# Altium footprint library resistors.PcbLib: 6 footprints
Each footprint in its own frame and in the unit in brackets; x right, y up, seen from the top. Pads: shape width x height; smd on the part's side, far side on the other; paste and mask are expansions set on the pad; w line width, h text height; cw(c..) or ccw(c..) is an arc to the next point about the centre after c.
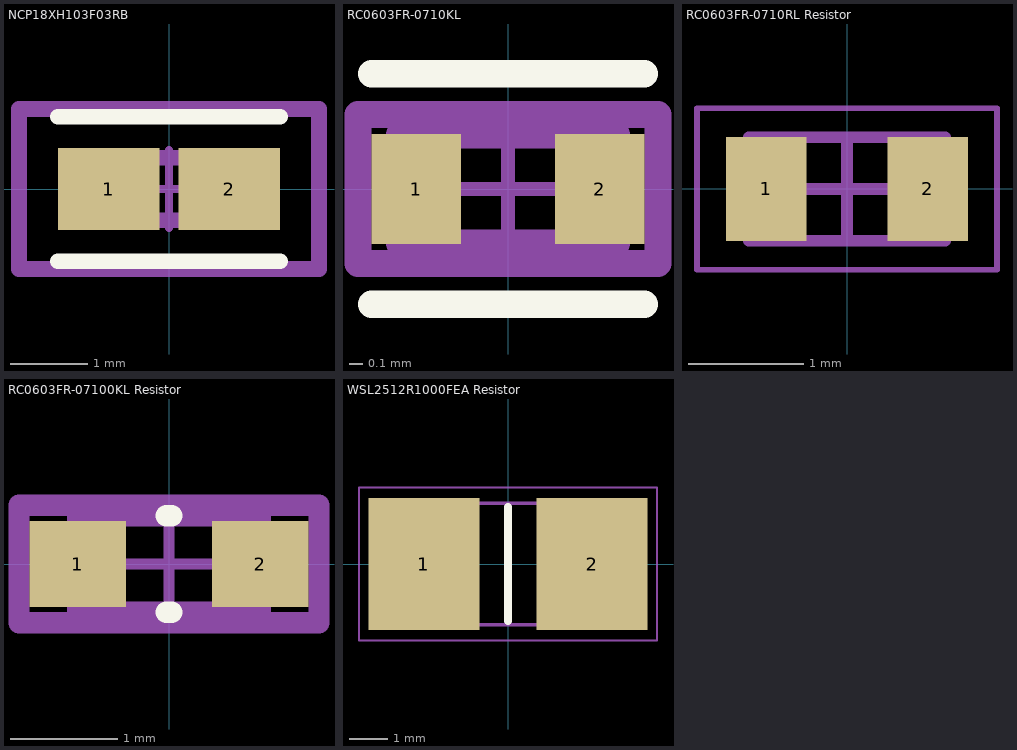
[diagram p0: the footprints below, top view; thin cyan lines are the x and y axes]

## NCP18XH103F03RB [mm]
pads (2):
  rect 1.306x1.058 smd paste+0 mask+0: 1(-0.776,0) 2(0.776,0)
Top Overlay:
  lines w0.2: -1.429,-0.929 1.429,-0.929 ; -1.429,0.929 1.429,0.929
Top 3D Body:
  lines w0.2: -0.8,-0.4 -0.8,0.4 0.8,0.4 0.8,-0.4 -0.8,-0.4
Top Courtyard:
  lines w0.2: -1.929,-1.029 -1.929,1.029 1.929,1.029 1.929,-1.029 -1.929,-1.029
Top Assembly:
  lines w0.2: -1.929,-1.029 -1.929,1.029 1.929,1.029 1.929,-1.029 -1.929,-1.029
  text ".Designator" at 0,0.188 h1
Top Component Center:
  lines w0.1: -0.5,0 0.5,0 ; 0,-0.5 0,0.5
3D body "Res_Murata_NCP18WB473D03RB_eec.STEP": height 0.25, standoff 0, extent -1.929,-1.029 1.929,1.029

## PCBComponent_1 [mm]

## RC0603FR-0710KL [mm]
pads (2):
  rect 0.659x0.812 smd paste+0 mask+0: 1(-0.677,0) 2(0.677,0)
Top Overlay:
  lines w0.2: -1.006,-0.85 1.006,-0.85 ; -1.006,0.85 1.006,0.85
Top 3D Body:
  lines w0.2: -0.8,-0.4 -0.8,0.4 0.8,0.4 0.8,-0.4 -0.8,-0.4
Top Courtyard:
  lines w0.2: -1.106,-0.55 -1.106,0.55 1.106,0.55 1.106,-0.55 -1.106,-0.55
Top Assembly:
  lines w0.2: -1.106,-0.55 -1.106,0.55 1.106,0.55 1.106,-0.55 -1.106,-0.55
  text ".Designator" at 0.889,1.331 h1
Top Component Center:
  lines w0.1: -0.5,0 0.5,0 ; 0,-0.5 0,0.5
3D body "Res_Yageo_RC0603FR-07100KL_eec.STEP": height 0.25, standoff 0, extent -1.106,-0.55 1.106,0.55

## RC0603FR-0710RL Resistor [mm] "Chip Resistor, 2-Leads, Body 1.70x0.90mm, IPC Medium Density"
height 0.55
pads (2):
  rect 0.7x0.9 smd: 1(-0.7,0) 2(0.7,0)
Mechanical 13:
  lines w0.1: -0.85,-0.45 -0.85,0.45 0.85,0.45 0.85,-0.45 -0.85,-0.45
Mechanical 15:
  lines w0.05: -1.3,-0.7 -1.3,0.7 1.3,0.7 1.3,-0.7 -1.3,-0.7
  lines w0.1: -0.45,0 0.45,0 ; 0,-0.45 0,0.45
3D body: height 0.55, standoff 0, extent -0.6,-0.45 0.6,0.45
3D body: height 0.55, standoff 0, extent -0.85,-0.45 -0.6,0.45
3D body: height 0.55, standoff 0, extent 0.6,-0.45 0.85,0.45

## RC0603FR-07100KL Resistor [mm]
pads (2):
  rect 0.9x0.8 smd paste+0 mask+0: 1(-0.85,0) 2(0.85,0)
Top Overlay:
  lines w0.2: -0.025,-0.45 0.025,-0.45 ; -0.025,0.45 0.025,0.45
Top 3D Body:
  lines w0.2: -0.85,-0.45 -0.85,0.45 0.85,0.45 0.85,-0.45 -0.85,-0.45
Top Courtyard:
  lines w0.2: -1.4,-0.55 -1.4,0.55 1.4,0.55 1.4,-0.55 -1.4,-0.55
Top Assembly:
  lines w0.2: -1.4,-0.55 -1.4,0.55 1.4,0.55 1.4,-0.55 -1.4,-0.55
  text ".Designator" at 0.381,1.331 h1
Top Component Center:
  lines w0.1: -0.5,0 0.5,0 ; 0,-0.5 0,0.5
3D body "Res_Yageo_RC0603FR-07100KL_eec.STEP": height 0.25, standoff 0, extent -1.4,-0.55 1.4,0.55

## WSL2512R1000FEA Resistor [mm]
pads (2):
  rect 2.9x3.45 smd: 1(-2.2,0) 2(2.2,0)
Top Overlay:
  lines w0.2: 0,-1.49 0,1.49
Mechanical 13:
  lines w0.1: -3.175,-1.59 3.175,-1.59 3.175,1.59 -3.175,1.59 -3.175,-1.59
Mechanical 15:
  lines w0.05: -3.9,-2 3.9,-2 3.9,2 -3.9,2 -3.9,-2
3D body "WSL2512R1000FEA.stp": height 0.64, standoff 0, extent -3.175,-1.59 3.175,1.59